# Altium schematic symbol library SRes_KOA_PSG4NTEB1L00F_1mOhm.SchLib: 1 symbol
Pins are listed as number, name and electrical type; pins without a type are passive.

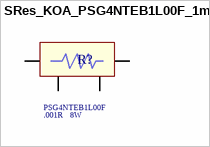
[diagram p0: symbol SRes_KOA_PSG4NTEB1L00F_1mOhm]

## SRes_KOA_PSG4NTEB1L00F_1mOhm
designator R?  Parameter 1: 8W  Series: PSG4NTEB1L00F  Resistance: .001R  (hidden comment: SRes_KOA_PSG4NTEB1L00F_1mOhm)
Current Sense Resistors - SMD 1mOhm 8W 1% 50ppm AEC-Q200 Power Shunt; Supplier Part Number 1: 660-PSG4NTEB1L00F; Supplier 1: Mouser
footprint SRes_KOA_PSG4NTEB1L00F_1mOhm
pins: 1, 2, 3, 4